# Altium footprint library CELTHT(D10h16)PCM5.pcbLib: 1 footprints
Each footprint in its own frame and in the unit in brackets; x right, y up, seen from the top. Pads: shape width x height; smd on the part's side, far side on the other; paste and mask are expansions set on the pad; w line width, h text height; cw(c..) or ccw(c..) is an arc to the next point about the centre after c.
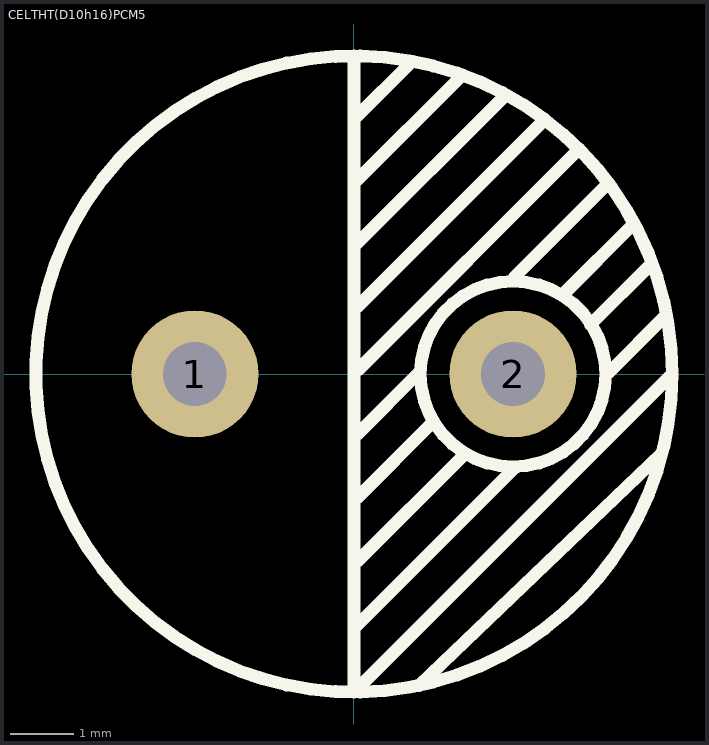
[diagram p0: the footprint, top view; thin cyan lines are the x and y axes]

## CELTHT(D10h16)PCM5 [mm] "Electrolytic Capacitors (Radial Lead Type)"
height 16
pads (2):
  round 2 hole 1: 1(-2.5,0) 2(2.5,0)
Top Overlay:
  circle w0.2: c0,0 r5
  circle w0.2: c2.5,0 r1.456
  lines w0.2: 0.001,-4.997 0.001,4.998 ; 0.001,2.998 1.704,4.701 ; 0.001,4.004 0.91,4.913 ; 0.003,2.003 2.388,4.388 ; 0.034,-3.966 2.522,-1.478 ; 0.058,-4.942 5.001,0.001 ; 0.058,-2.942 1.742,-1.258 ; 0.058,-1.942 1.253,-0.747 ; 0.058,-0.942 1.022,0.022 ; 0.058,0.058 3.535,3.535 ; 0.058,1.058 2.999,3.999 ; 1.022,-4.894 4.83,-1.248 ; 2.518,1.518 3.999,3 ; 3.273,1.238 4.399,2.364 ; 3.718,0.777 4.679,1.738 ; 3.999,0.018 4.905,0.924
3D body "User Library-Cap-EL(10x16-5).step": height 16, standoff -3.3, extent -5,-4.997 5.002,4.998